# EAGLE library part IMU_YZ_MAG_2 (library booz)
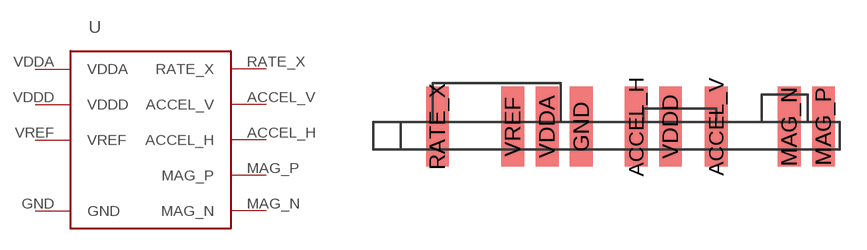
[diagram p8: symbol with the pads of IMU_YZ_MAG; footprint IMU_YZ_MAG]

Designator prefix -

## IMU_YZ_MAG_2  [IMU_YZ_MAG]
ACCEL_H  ACCEL_H
ACCEL_V  ACCEL_V
GND  GND
MAG_N  MAG_N
MAG_P  MAG_P
RATE_X  RATE_X
VDDA  VDDA
VDDD  VDDD
VREF  VREF

## Footprint IMU_YZ_MAG (pad centres in mm)
smd 1.27 x 4.445: ACCEL_H 3.81,0.508; ACCEL_V 8.255,0.508; GND 0.762,0.508; MAG_N 12.319,0.508; MAG_P 14.224,0.508; RATE_X -7.239,0.508; VDDA -1.143,0.508; VDDD 5.715,0.508; VREF -3.048,0.508